# Altium schematic symbol library LM2596S-adj.SCHLIB: 1 symbol
Pins are listed as number, name and electrical type; pins without a type are passive.

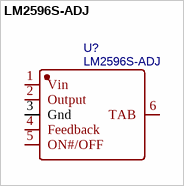
[diagram p0: symbol LM2596S-ADJ]

## LM2596S-ADJ
designator U?
BOM_Manufacturer: UMW(Youtai Semiconductor Co., Ltd.); Contributor: LCSC; BOM_Supplier: LCSC; BOM_Supplier Part: C347423; BOM_Manufacturer Part: LM2596S-ADJ; BOM_JLCPCB Part Class: Extended Part; spicePre: U; spiceSymbolName: LM2596S-ADJ
footprint TO-263-5_L10.2-W8.9-P1.70-BR
pins: 1 Vin, 2 Output, 3 Gnd, 4 Feedback, 5 ON#/OFF, 6 TAB